# Altium schematic symbol library CAY16-2201F4LF.SchLib: 1 symbol
Pins are listed as number, name and electrical type; pins without a type are passive.

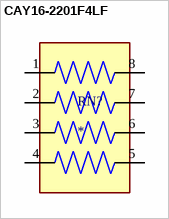
[diagram p0: symbol CAY16-2201F4LF]

## CAY16-2201F4LF
designator RN?
Res Thick Film Array 75 Ohm 5% 0.25W(1/4W) ?200ppm/C ISOL Molded 8-Pin 1206(4 X 0603) Convex SMD T/R; MF: {'manufacturer': u'Bourns'}; MP: CAY16-2201F4LF; Package: None; Price: None; Value: *; Availability: Unavailable
footprint RESCAF80P320X160X60-8N
pins: 1, 2, 3, 4, 5, 6, 7, 8